# EAGLE library part ATMEL_AT90S2313 (library AdapterDIP8M16)
MICROCONTROLLER 2 Kbytes FLASH 128 bytes SRAM 128 bytes EEPROM UART
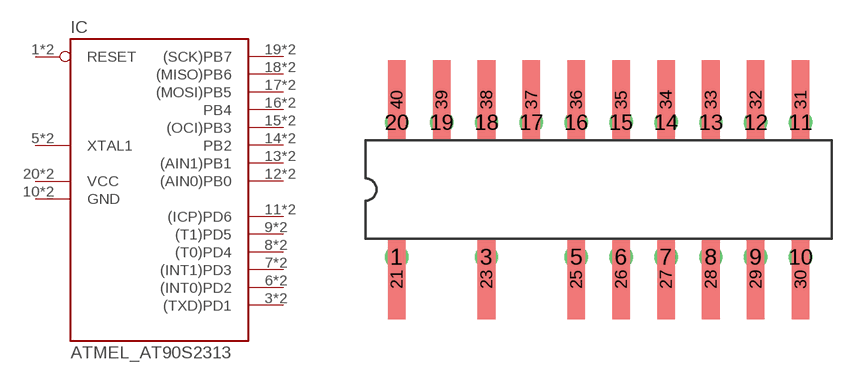
[diagram p1: symbol with the pads of ATMEL_DIL20B; footprint ATMEL_DIL20B]

Designator prefix IC

## ATMEL_AT90S2313  [ATMEL_DIL20B]
1  RESET
3  (TXD)PD1
5  XTAL1
6  (INT0)PD2
7  (INT1)PD3
8  (T0)PD4
9  (T1)PD5
10  GND  pwr
11  (ICP)PD6
12  (AIN0)PB0
13  (AIN1)PB1
14  PB2
15  (OCI)PB3
16  PB4
17  (MOSI)PB5
18  (MISO)PB6
19  (SCK)PB7
20  VCC  pwr
21  RESET
23  (TXD)PD1
25  XTAL1
26  (INT0)PD2
27  (INT1)PD3
28  (T0)PD4
29  (T1)PD5
30  GND  pwr
31  (ICP)PD6
32  (AIN0)PB0
33  (AIN1)PB1
34  PB2
35  (OCI)PB3
36  PB4
37  (MOSI)PB5
38  (MISO)PB6
39  (SCK)PB7
40  VCC  pwr

## Footprint ATMEL_DIL20B (pad centres in mm)
Dual In Line
drill 0.813: 1 -11.43,-3.81; 3 -6.35,-3.81; 5 -1.27,-3.81; 6 1.27,-3.81; 7 3.81,-3.81; 8 6.35,-3.81; 9 8.89,-3.81; 10 11.43,-3.81; 11 11.43,3.81; 12 8.89,3.81; 13 6.35,3.81; 14 3.81,3.81; 15 1.27,3.81; 16 -1.27,3.81; 17 -3.81,3.81; 18 -6.35,3.81; 19 -8.89,3.81; 20 -11.43,3.81
smd 1 x 4.5: 21 -11.43,-5.08; 23 -6.35,-5.08; 25 -1.27,-5.08; 26 1.27,-5.08; 27 3.81,-5.08; 28 6.35,-5.08; 29 8.89,-5.08; 30 11.43,-5.08; 31 11.43,5.08; 32 8.89,5.08; 33 6.35,5.08; 34 3.81,5.08; 35 1.27,5.08; 36 -1.27,5.08; 37 -3.81,5.08; 38 -6.35,5.08; 39 -8.89,5.08; 40 -11.43,5.08